# EAGLE library part CD4504BM96 (library FSAE Electric)
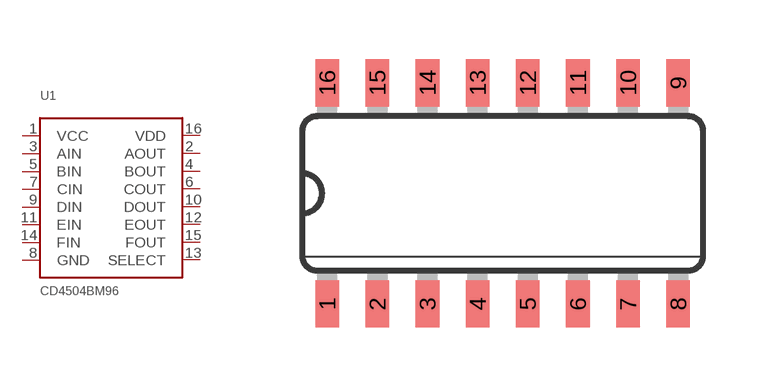
[diagram p68: symbol with the pads of SO-16; footprint SO-16]

Designator prefix U1

## CD4504BM96 (PARTNO: CD4504BM96)  [SO-16]
1  VCC
2  AOUT
3  AIN
4  BOUT
5  BIN
6  COUT
7  CIN
8  GND
9  DIN
10  DOUT
11  EIN
12  EOUT
13  SELECT
14  FIN
15  FOUT
16  VDD

## Footprint SO-16 (pad centres in mm)
smd 0.6 x 1.2: 1 -4.445,-2.8; 2 -3.175,-2.8; 3 -1.905,-2.8; 4 -0.635,-2.8; 5 0.635,-2.8; 6 1.905,-2.8; 7 3.175,-2.8; 8 4.445,-2.8; 9 4.445,2.8; 10 3.175,2.8; 11 1.905,2.8; 12 0.635,2.8; 13 -0.635,2.8; 14 -1.905,2.8; 15 -3.175,2.8; 16 -4.445,2.8